# Altium footprint library SG__PCB_Mechanical.PcbLib: 20 footprints (part 2 of 2)
Each footprint in its own frame and in the unit in brackets; x right, y up, seen from the top. Pads: shape width x height; smd on the part's side, far side on the other; paste and mask are expansions set on the pad; w line width, h text height; cw(c..) or ccw(c..) is an arc to the next point about the centre after c.
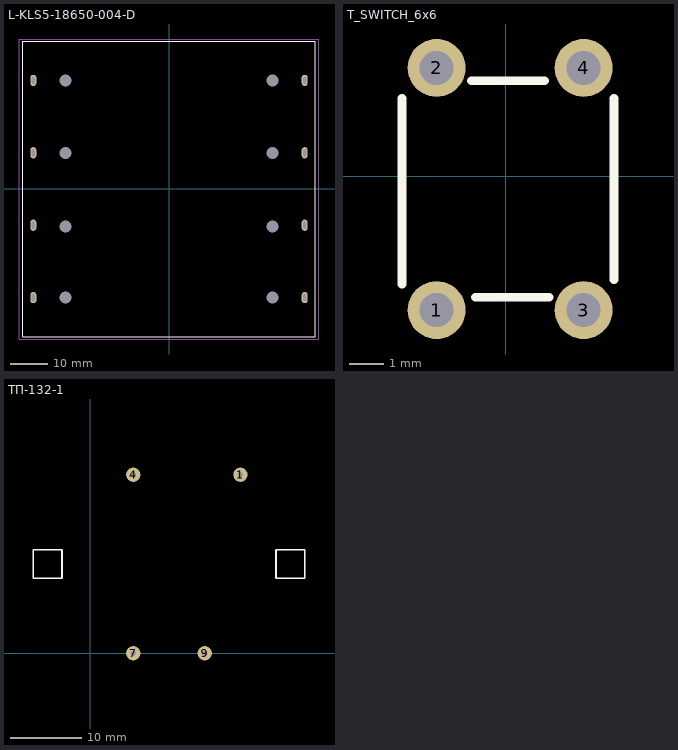
[diagram p1: the footprints below, top view; thin cyan lines are the x and y axes]

## L-KLS5-18650-004-D [mm]
pads (16):
  round 0 hole 3.2 unplated: 0(-27.65,-28.95) 0(-27.65,-10) 0(-27.65,9.65) 0(-27.65,28.95) 0(27.65,-28.95) 0(27.65,-10) 0(27.65,9.65) 0(27.65,28.95)
  oval 1.6x3 hole 0.8 slot 2 at 90 deg: A1(-36.185,-28.95) A2(-36.185,-9.65) A3(-36.185,9.65) A4(-36.185,28.95) K1(36.185,-28.95) K2(36.185,-9.65) K3(36.185,9.65) K4(36.185,28.95)
Top Overlay:
  lines w0.254: -38.95,-39.4 38.95,-39.4 38.95,39.4 -38.95,39.4 -38.95,-39.4
Bottom Overlay:
  text "+" at -38.494,8.845 h1.52
  text "+" at -38.494,28.145 h1.52
  text "+" at -38.494,-29.755 h1.52
  text "+" at -38.494,-10.455 h1.52
Top Courtyard:
  lines w0.2: -40,-40 40,-40 40,40 -40,40 -40,-40
3D body "BA5_ 0__C_C;OB_@=K9 BC-18650-PC4.step": height 21.5, standoff -3.2, extent -39.077,-1.079 38.923,39.421
3D body "BA5_ 0__C_C;OB_@=K9 BC-18650-PC4.step": height 21.5, standoff -3.2, extent -39.077,-39.679 38.923,0.821

## MiniSat_CAP [mm]
3D body "Торцевая Стяжка.stp": height 4, standoff 0, extent -2,-2.15 38.3,38.15

## T_SWITCH_6x6 [mm]
pads (4):
  round 1.7 hole 1: 1(-2.032,-3.937) 2(-2.032,3.175) 3(2.286,-3.937) 4(2.286,3.175)
Top Overlay:
  lines w0.254: -3.048,-3.175 -3.048,2.286 ; -1.016,2.794 1.143,2.794 ; -0.889,-3.556 1.27,-3.556 ; 3.175,-3.048 3.175,2.286
3D body "T_SWITCH_6x6.step": height 11.21, standoff -1.56, extent -2.973,-4.341 3.227,3.579

## ТП-132-1 [mm]
pads (6):
  round 2 on Drill Guide: 0(-6,12.5) 0(28,12.5)
  round 2 hole 0.762: 1(21,25) 4(6,25) 7(6,0) 9(16,0)
Top Overlay:
  lines w0.254: -8,10.5 -8,14.5 -4,14.5 -4,10.5 -8,10.5 ; 26,10.5 30,10.5 30,14.5 26,14.5 26,10.5
Bottom Overlay:
  lines w0.254: -10,9.5 -4,9.5 -3,9.5 ; -10,15.5 -3,15.5 ; 25,9.5 32,9.5 ; 25,15.5 32,15.5 ; -10,-5 -10,30 32,30 32,-5 -10,-5 ; -3,-1.5 -3,26.5 25,26.5 25,-1.5 -3,-1.5
3D body "ТП-132-1.stp": height 4, standoff -41, extent -10,-5 32,30